# Altium schematic symbol library LED_3_PIN.SchLib: 1 symbol
Pins are listed as number, name and electrical type; pins without a type are passive.

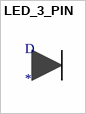
[diagram p0: symbol LED_3_PIN]

## LED_3_PIN
designator D